# EAGLE library part FAN7888 (library sapog_reference_hardware)
IC GATE DRIVER HALF BRIDG 20SOIC
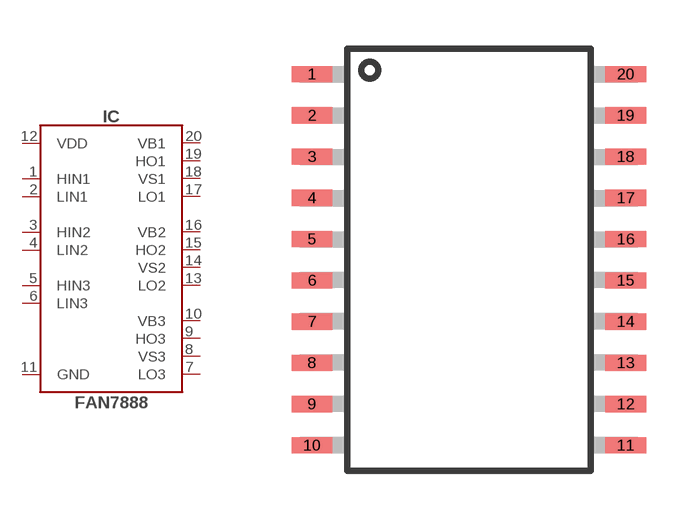
[diagram p7: symbol with the pads of SOIC20; footprint SOIC20]

Designator prefix IC

## FAN7888 (DIGIKEY#: FAN7888MXTR-ND; MANF: Fairchild Semiconductor; MANF#: FAN7888MX)  [SOIC20]
1  HIN1
2  LIN1
3  HIN2
4  LIN2
5  HIN3
6  LIN3
7  LO3
8  VS3
9  HO3
10  VB3
11  GND
12  VDD
13  LO2
14  VS2
15  HO2
16  VB2
17  LO1
18  VS1
19  HO1
20  VB1

## Footprint SOIC20 (pad centres in mm)
smd 1.25 x 0.5: 1 -4.826,5.715; 2 -4.826,4.445; 3 -4.826,3.175; 4 -4.826,1.905; 5 -4.826,0.635; 6 -4.826,-0.635; 7 -4.826,-1.905; 8 -4.826,-3.175; 9 -4.826,-4.445; 10 -4.826,-5.715; 11 4.826,-5.715; 12 4.826,-4.445; 13 4.826,-3.175; 14 4.826,-1.905; 15 4.826,-0.635; 16 4.826,0.635; 17 4.826,1.905; 18 4.826,3.175; 19 4.826,4.445; 20 4.826,5.715